# Altium footprint library DTM15-12PA-G003.PcbLib: 2 footprints
Each footprint in its own frame and in the unit in brackets; x right, y up, seen from the top. Pads: shape width x height; smd on the part's side, far side on the other; paste and mask are expansions set on the pad; w line width, h text height; cw(c..) or ccw(c..) is an arc to the next point about the centre after c.
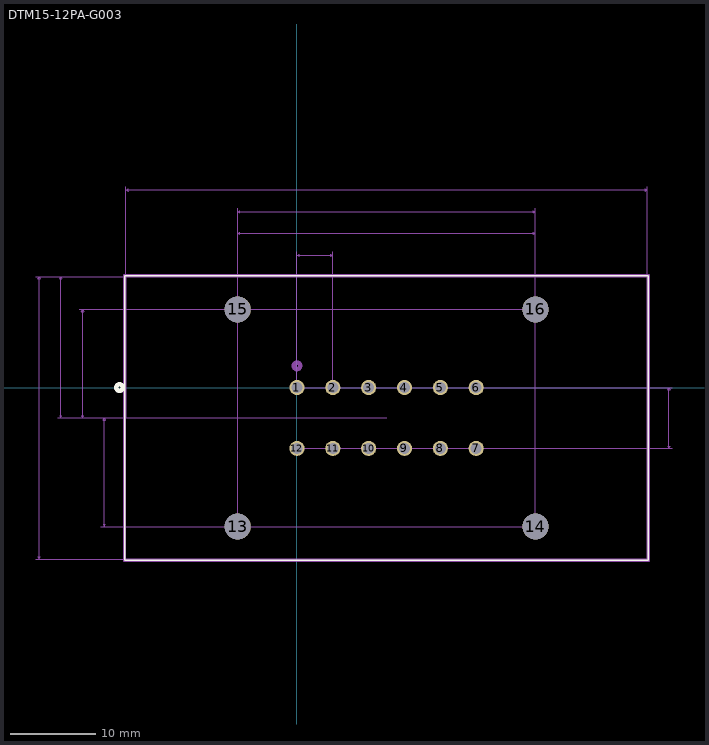
[diagram p0: the footprints below, top view; thin cyan lines are the x and y axes]

## DTM15-12PA-G003 [mil]
pads (16):
  round 70 hole 50 mask-1000: 1(0,0) 2(165,0) 3(330,0) 4(495,0) 5(660,0) 6(825,0) 7(825,-280) 8(660,-280) 9(495,-280) 10(330,-280) 11(165,-280) 12(0,-280)
  round 120 hole 120 mask-1000: 13(-273,-640) 14(1098,-640) 15(-273,360) 16(1098,360)
Top Layer keep-out:
  region: 
  region: 
  region: 
  region: 
Top Overlay:
  circle w20: c-817.5,0 r15
  lines w6: -792.5,-795 1617.5,-795 1617.5,515 -792.5,515 -792.5,-795
Bottom Overlay:
  circle w20: c-817.5,0 r15
Top Solder:
  drawing of 16 lines, arcs and shapes, not listed
Bottom Solder:
  drawing of 16 lines, arcs and shapes, not listed
Mechanical 1:
  circle w20: c0,100 r15
  lines w1: -787.5,-790 1612.5,-790 1612.5,510 -787.5,510 -787.5,-790
Mechanical 16:
  lines w1: -1202.5,-790 -787.5,-790 ; -1202.5,510 -787.5,510 ; -1102.5,-140 412.5,-140 ; -1102.5,510 -787.5,510 ; -1002.5,-140 412.5,-140 ; -1002.5,360 1098,360 1098,725 ; -902.5,-640 1098,-640 1098,825 ; -902.5,-140 412.5,-140 ; -787.5,925 -787.5,510 ; -273,-640 -273,825 ; -273,360 -273,725 ; 0,-280 1727.5,-280 ; 0,625 0,0 1727.5,0 ; 165,0 165,625 ; 1612.5,510 1612.5,925 ; -1187.5,-790 -1187.5,510 ; -1187.5,-790 -1192.5,-780 -1182.5,-780 -1187.5,-790 ; -1187.5,510 -1192.5,500 -1182.5,500 -1187.5,510 ; -1087.5,-140 -1087.5,510 ; -1087.5,-140 -1092.5,-130 -1082.5,-130 -1087.5,-140 ; -1087.5,510 -1092.5,500 -1082.5,500 -1087.5,510 ; -987.5,-140 -987.5,360 ; -987.5,-140 -992.5,-130 -982.5,-130 -987.5,-140 ; -987.5,360 -992.5,350 -982.5,350 -987.5,360 ; -887.5,-640 -887.5,-140 ; -887.5,-640 -892.5,-630 -882.5,-630 -887.5,-640 ; -887.5,-140 -892.5,-150 -882.5,-150 -887.5,-140 ; -787.5,910 1612.5,910 ; -787.5,910 -777.5,915 -777.5,905 -787.5,910 ; -273,710 1098,710 ; -273,710 -263,715 -263,705 -273,710 ; -273,810 1098,810 ; -273,810 -263,815 -263,805 -273,810 ; 0,610 165,610 ; 0,610 10,615 10,605 0,610 ; 165,610 155,615 155,605 165,610 ; 1098,710 1088,715 1088,705 1098,710 ; 1098,810 1088,815 1088,805 1098,810 ; 1612.5,910 1602.5,915 1602.5,905 1612.5,910 ; 1712.5,-280 1712.5,0 ; 1712.5,-280 1707.5,-270 1717.5,-270 1712.5,-280 ; 1712.5,0 1707.5,-10 1717.5,-10 1712.5,0
  lines w6: -787.5,-790 1612.5,-790 1612.5,510 -787.5,510 -787.5,-140 ; -797.5,-800 -797.5,520 1622.5,520 1622.5,-800 -797.5,-800
  text "Default Padstyle: EX100Y100D80P" at 412.5,-890 h31.25
  text "1st Mtg Padstyle: EX120Y120D120P" at 412.5,-965 h31.25
  text "2nd Mtg Padstyle: EX120Y120D120P" at 412.5,-1040 h31.25
  text "3rd Mtg Padstyle: EX132Y132D132P" at 412.5,-1115 h31.25
  text "Left Mtg Padstyle: EX60Y60D30P" at 412.5,-1190 h31.25
  text "Right Mtg Padstyle: EX60Y60D30P" at 412.5,-1265 h31.25
  text "Alt Padstyle 1: OX60Y90D30P" at 412.5,-1340 h31.25
  text "Alt Padstyle 2: OX90Y60D30P" at 412.5,-1415 h31.25
  text "0.165in/4.191mm" at 82.5,630 h15.62
  text "1.371in/34.823mm" at 412.5,730 h15.62
  text "1.371in/34.823mm" at 412.5,830 h15.62
  text "2.4in/60.96mm" at 412.5,930 h15.62
  text "0.28in/7.112mm" at 1732.5,-140 h15.62
  text "-0.5in/-12.7mm" at -907.5,-390 h15.62
  text "0.5in/12.7mm" at -1007.5,110 h15.62
  text "0.65in/16.51mm" at -1107.5,185 h15.62
  text "1.3in/33.02mm" at -1207.5,185 h15.62
3D body "c-dtm15-12pa-g003-1-3d.stp": height 1190, standoff -120, extent -787.5,-790 1612.5,510

## PCBComponent_1 [mil]